# Altium footprint library Capacitors.PcbLib: 43 footprints (part 2 of 3)
Each footprint in its own frame and in the unit in brackets; x right, y up, seen from the top. Pads: shape width x height; smd on the part's side, far side on the other; paste and mask are expansions set on the pad; w line width, h text height; cw(c..) or ccw(c..) is an arc to the next point about the centre after c.
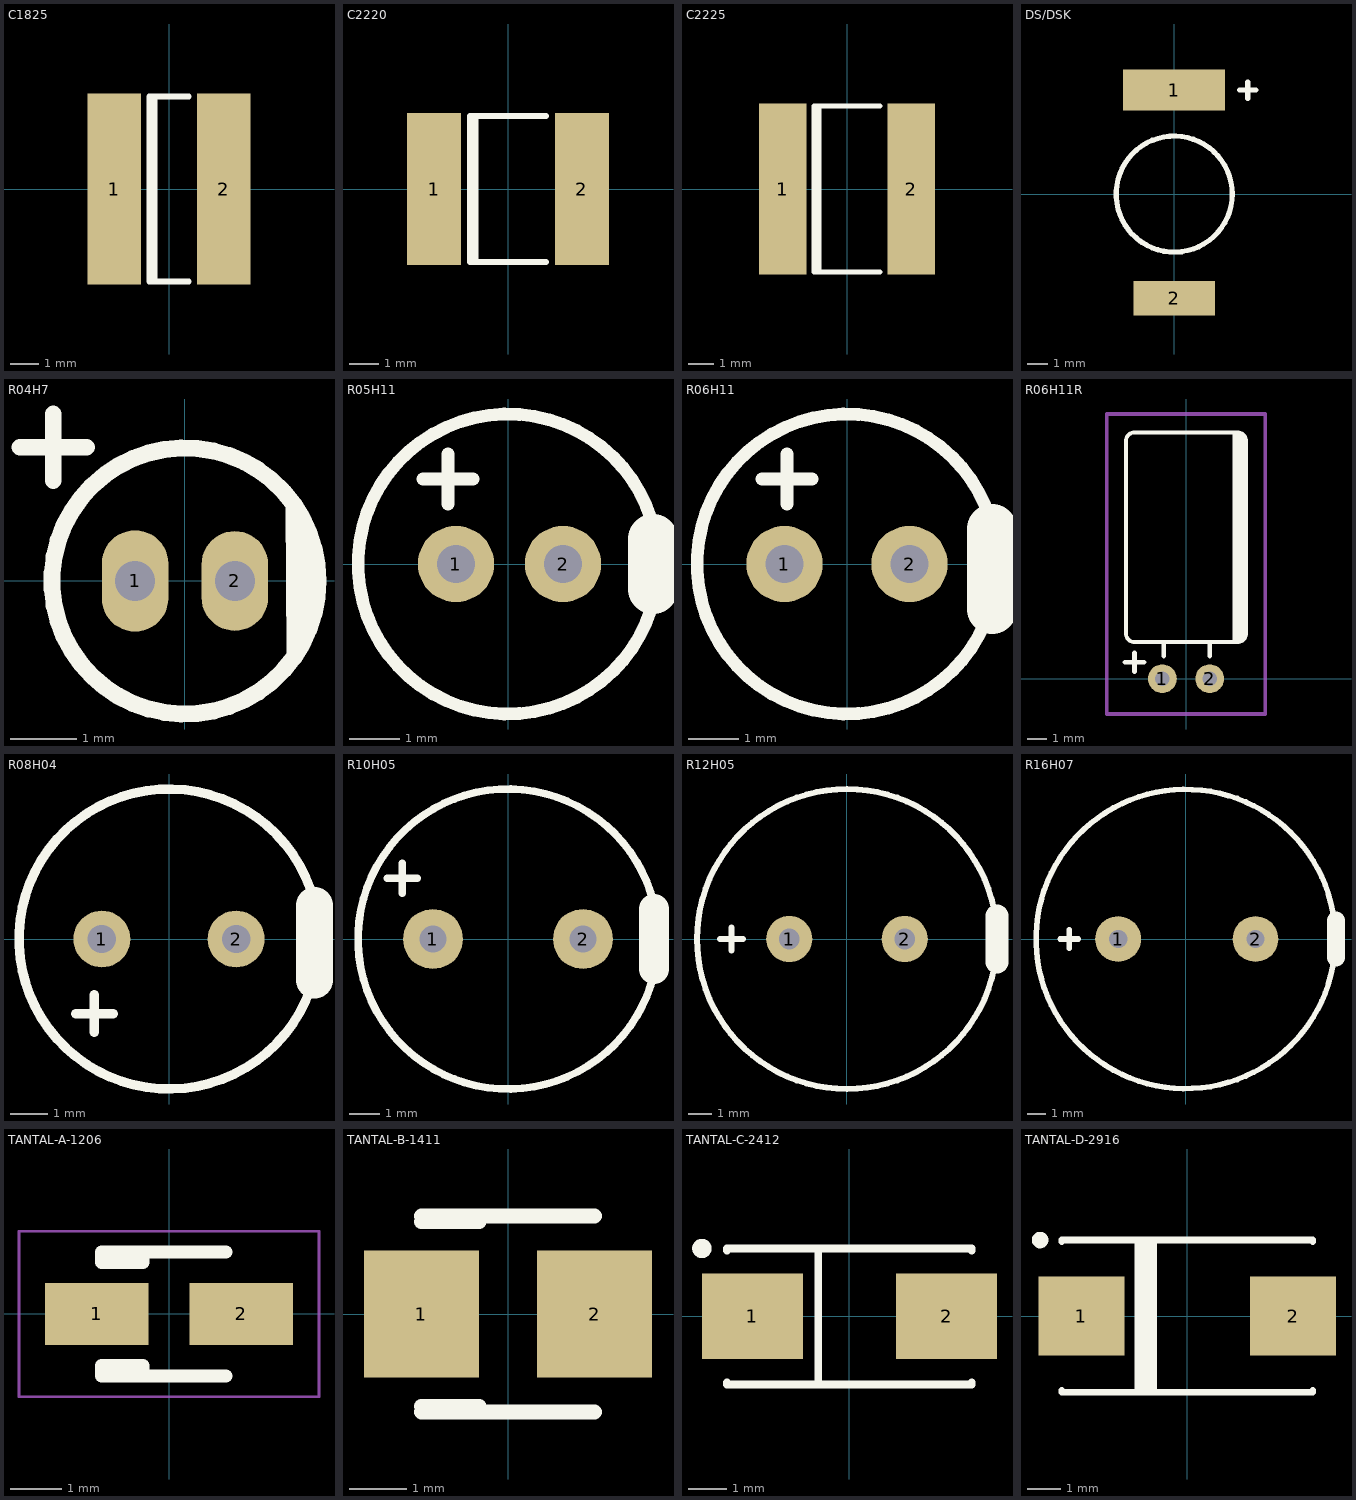
[diagram p1: the footprints below, top view; thin cyan lines are the x and y axes]

## C1825 [mm]
pads (2):
  rect 1.9x6.8 smd: 1(-1.95,0) 2(1.95,0)
Top Overlay:
  lines w0.2: -0.51,-3.3 -0.51,3.3 ; 0.7,-3.3 -0.7,-3.3 -0.7,3.3 0.7,3.3

## C2220 [mm]
pads (2):
  rect 1.85x5.2 smd: 1(-2.525,0) 2(2.525,0)
Top Overlay:
  lines w0.2: -1.11,-2.5 -1.11,2.5 ; 1.3,-2.5 -1.3,-2.5 -1.3,2.5 1.3,2.5

## C2225 [mm]
pads (2):
  rect 1.9x6.8 smd: 1(-2.55,0) 2(2.55,0)
Top Overlay:
  lines w0.2: -1.11,-3.3 -1.11,3.3 ; 1.3,-3.3 -1.3,-3.3 -1.3,3.3 1.3,3.3

## DS/DSK [mm] "Coin Cell Capacitors"
height 3
pads (2):
  rect 5x2 smd: 1(0,5.1)
  rect 4x1.7 smd: 2(0,-5.1)
Top Overlay:
  circle w0.254: c0,0 r2.844
  lines w0.254: 3.2,5.1 4,5.1 ; 3.6,4.7 3.6,5.5
3D body "User Library-DSK-3R3H.step": height 2.8, standoff 0, extent -3.4,-5.75 3.4,5.95

## R04H7 [mm] "Radius 4mm, between holes 1.5mm"
height 7
pads (2):
  oval 1x1.524 hole 0.6: 1(-0.75,0)
  oval 1x1.5 hole 0.6: 2(0.75,0)
Top Overlay:
  circle w0.254: c0,0 r2
  lines w0.254: -2.48,2.01 -1.48,2.01 ; -1.98,1.51 -1.98,2.51 ; 1.64,1.13 1.65,-1.09 ; 1.79,0.78 1.8,-0.77
3D body "User Library-ECAP4_6_15.step": height 6.2, standoff -2.1, extent -2,-2 2,2

## R05H11 [mil] "Radius 5mm, between holes 2.54mm"
height 472.44
pads (2):
  round 60 hole 30: 1(-40.94,0) 2(43.31,0)
Top Overlay:
  circle w10: c0,0 r118.11
  lines w10: -66.93,66.93 -27.56,66.93 ; -47.24,47.24 -47.24,86.61
  lines w39.37: 114.17,-19.68 114.17,19.68
3D body "CircuitWorks-ELECTROLITIC CAPACITOR RADIAL 5X11.step": height 433.07, standoff -98.43, extent -98.42,-98.42 98.43,98.43

## R06H11 [mil] "Radius 6.3mm, between holes 2.5mm"
height 433.07
pads (2):
  round 60 hole 30: 1(-49.21,0) 2(49.21,0)
Top Overlay:
  circle w10: c0,0 r118.11
  lines w10: -66.93,66.93 -27.56,66.93 ; -47.24,47.24 -47.24,86.61
  lines w39.37: 114.17,-35.43 114.17,27.56
3D body "User Library-CAPAER_D063_L110_P025_W005X030.STEP": height 433.6, standoff -118.11, extent -124.01,-124.01 124.41,124.02

## R06H11R [mil] "Right angle, Radius 6.3mm, pitch 2.5mm"
height 248.03
pads (2):
  round 60 hole 30: 1(-49.21,0) 2(49.21,0)
Top Overlay:
  region: 96.85,78.67 96.85,508.73 98.95,510.01 103.69,511.37 108.61,511.46 113.38,510.25 117.67,507.83 121.18,504.38 123.67,500.13 124.95,495.38 124.95,492.91 124.95,94.49 124.95,92.03 123.67,87.27 121.18,83.02 117.67,79.57 113.38,77.16 108.61,75.95 103.69,76.03 98.95,77.39
  lines w7.87: -124.85,492.91 -124.85,94.49 ccw(c-106.35,94.49) -106.35,75.98 106.45,75.98 ccw(c106.45,94.49) 124.95,94.49 124.95,492.91 ccw(c106.45,492.91) 106.45,511.42 -106.3,511.42 ccw(c-106.3,492.91) -124.8,492.91
  lines w10: -126.38,34.25 -87.01,34.25 ; -106.69,14.57 -106.69,53.94 ; -46.14,47 -46.14,74.56 ; 49.21,46.88 49.21,74.44
Mechanical 15:
  lines w7.87: -164.57,-73.23 -164.57,549.61 164.48,549.61 164.48,-73.23 -164.57,-73.23
3D body "User Library-Cap electro 6_3x11x2_5mm RA.step": height 251, standoff -110.24, extent -125.02,-13.21 125.02,511.24

## R08H04 [mil] "Radius 8mm, between holes 4mm"
height 492.13
pads (2):
  round 60 hole 30: 1(-70.87,0) 2(70.87,0)
Top Overlay:
  circle w10: c0,0 r158.36
  lines w10: -98.43,-78.74 -59.06,-78.74 ; -78.74,-98.43 -78.74,-59.06
  lines w39.37: 153.54,-43.31 153.54,35.43
3D body "CircuitWorks-ELECTROLITIC CAPACITOR RADIAL 8X12.step": height 472.44, standoff -98.43, extent -157.47,-157.48 157.49,157.49

## R10H05 [mm] "Radius 10mm, between holes 5mm"
height 20
pads (2):
  round 2 hole 0.9: 1(-2.5,0) 2(2.5,0)
Top Overlay:
  circle w0.254: c0,0 r5
  lines w0.254: -4.02,2.02 -3.02,2.02 ; -3.52,1.52 -3.52,2.52
  lines w1: 4.86,-1 4.86,1
3D body "User Library-CE_R200_D400_H800.step": height 20.32, standoff -2.9, extent -5.11,-5.08 5.05,5.08

## R12H05 [mm] "Radius 12mm, between holes 5mm"
height 25
pads (2):
  round 2 hole 0.9: 1(-2.5,0) 2(2.5,0)
Top Overlay:
  circle w0.254: c0,0 r6.5
  lines w0.254: -5.5,0 -4.5,0 ; -5,-0.5 -5,0.5
  lines w1: 6.5,-1 6.5,1
3D body "User Library-Cap-EL(13x25-5).step": height 25, standoff -3.3, extent -6.5,-6.499 6.502,6.499

## R16H07 [mm] "Radius 16mm, between holes 7.5mm"
height 31.5
pads (2):
  round 2.5 hole 1: 1(-3.683,0) 2(3.81,0)
Top Overlay:
  circle w0.3: c0,0 r8.161
  lines w0.3: -6.85,0 -5.85,0 ; -6.35,-0.5 -6.35,0.5
  lines w1: 8.2,-1 8.2,1
3D body "User Library-CapAluRadial_D160H315.STEP": height 33.5, standoff -3, extent -8.25,-8.25 8.25,8.25

## TANTAL-A-1206 [mm]
pads (2):
  rect 2x1.2 smd: 1(-1.4,0) 2(1.4,0)
Top Overlay:
  lines w0.254: 1.1,-1.2 -0.5,-1.2 ; 1.1,1.2 -0.5,1.2 ; -0.5,-1.2 -1.3,-1.2 -1.3,-1 -0.5,-1 -0.5,-1.2 ; -0.5,1.2 -0.5,1 -1.3,1 -1.3,1.2 -0.5,1.2
Mechanical 15:
  lines w0.05: -2.9,-1.602 -2.9,1.6 2.9,1.6 2.9,-1.602 -2.9,-1.602
3D body "CASE_A.STEP": height 1.8, standoff 0, extent -1.6,-0.8 1.6,0.8

## TANTAL-B-1411 [mm]
pads (2):
  rect 2x2.2 smd: 1(-1.5,0) 2(1.5,0)
Top Overlay:
  lines w0.254: -1.5,-1.7 1.5,-1.7 ; -1.5,-1.6 -0.5,-1.6 ; -1.5,1.6 -0.5,1.6 ; -1.5,1.7 1.5,1.7
3D body "CASE_B.STEP": height 2.1, standoff 0, extent -1.75,-1.4 1.75,1.4

## TANTAL-C-2412 [mm]
pads (2):
  rect 2.6x2.2 smd: 1(-2.5,0) 2(2.5,0)
Top Overlay:
  circle w0.25: c-3.8,1.75 r0.125
  lines w0.2: -3.15,-1.7 -3.15,-1.75 3.15,-1.75 3.15,-1.7 ; -3.15,1.7 -3.15,1.75 3.15,1.75 3.15,1.7 ; -0.8,-1.75 -0.8,1.75
3D body "CASE_C.STEP": height 2.8, standoff 0, extent -3,-1.6 3,1.6

## TANTAL-D-2916 [mm]
pads (2):
  rect 2.6x2.4 smd: 1(-3.2,0) 2(3.2,0)
Top Overlay:
  circle w0.25: c-4.45,2.3 r0.125
  lines w0.2: -3.8,-2.25 -3.8,-2.3 3.8,-2.3 3.8,-2.25 ; -3.8,2.25 -3.8,2.3 3.8,2.3 3.8,2.25 ; -1.5,-2.3 -1.5,2.3 ; -1.397,-2.25 -1.397,2.3 ; -1.27,-2.25 -1.27,2.3 ; -1.143,-2.25 -1.143,2.3 ; -1.016,-2.25 -1.016,2.3
3D body "CASE_D.STEP": height -0.8, standoff -3.9, extent -3.65,-2.15 3.65,2.15